# Altium footprint library MSOP-8-EP.PcbLib: 1 footprints
Each footprint in its own frame and in the unit in brackets; x right, y up, seen from the top. Pads: shape width x height; smd on the part's side, far side on the other; paste and mask are expansions set on the pad; w line width, h text height; cw(c..) or ccw(c..) is an arc to the next point about the centre after c.
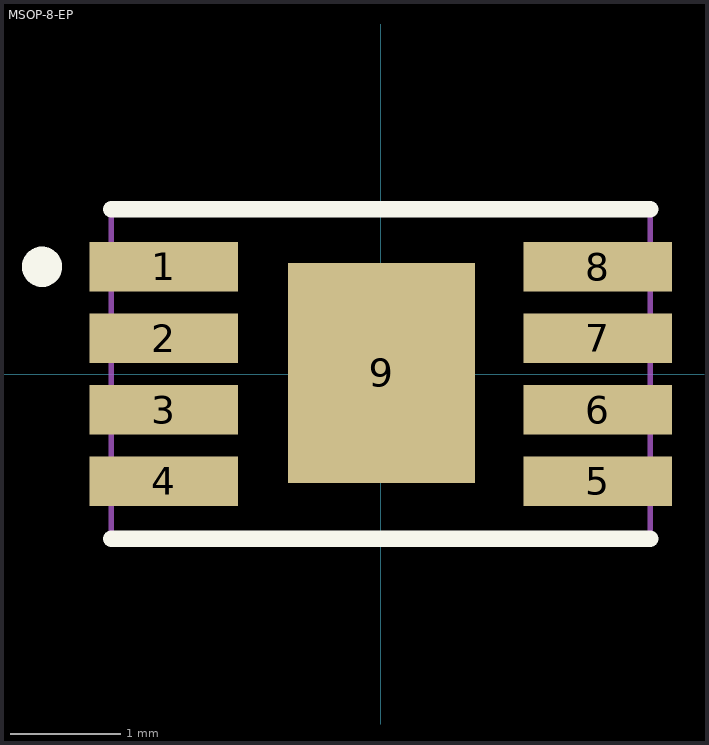
[diagram p0: the footprint, top view; thin cyan lines are the x and y axes]

## MSOP-8-EP [mm]
pads (9):
  rect 1.35x0.45 smd paste+0 mask+0.051: 1(-1.975,0.975) 2(-1.975,0.325) 3(-1.975,-0.325) 4(-1.975,-0.975) 5(1.975,-0.975) 6(1.975,-0.325) 7(1.975,0.325) 8(1.975,0.975)
  rect 1.7x2 smd mask+0.051: 9(0.007,0.011)
Top Overlay:
  lines w0.15: -2.45,-1.5 2.45,-1.5 ; -2.45,1.5 2.45,1.5
  lines w0.254: -3.028,0.993 ccw(c-3.081,0.975) -3.025,0.975
Mechanical 13:
  lines w0.05: -2.45,-1.5 2.45,-1.5 2.45,1.5 -2.45,1.5 -2.45,-1.5
Mechanical 15:
  lines w0.05: -0.25,0 0,0 ; 0.25,0 0,0 ; 0,0 0,0.25 0,0 ; 0,0 0,-0.25 0,0
3D body "MSOP-8EP.STEP": height 1.1, standoff 0, extent -2.45,-1.5 2.45,1.5